# Altium footprint library FOOTPRINT_FC_NAVC_LIB.PcbLib: 13 footprints
Each footprint in its own frame and in the unit in brackets; x right, y up, seen from the top. Pads: shape width x height; smd on the part's side, far side on the other; paste and mask are expansions set on the pad; w line width, h text height; cw(c..) or ccw(c..) is an arc to the next point about the centre after c.
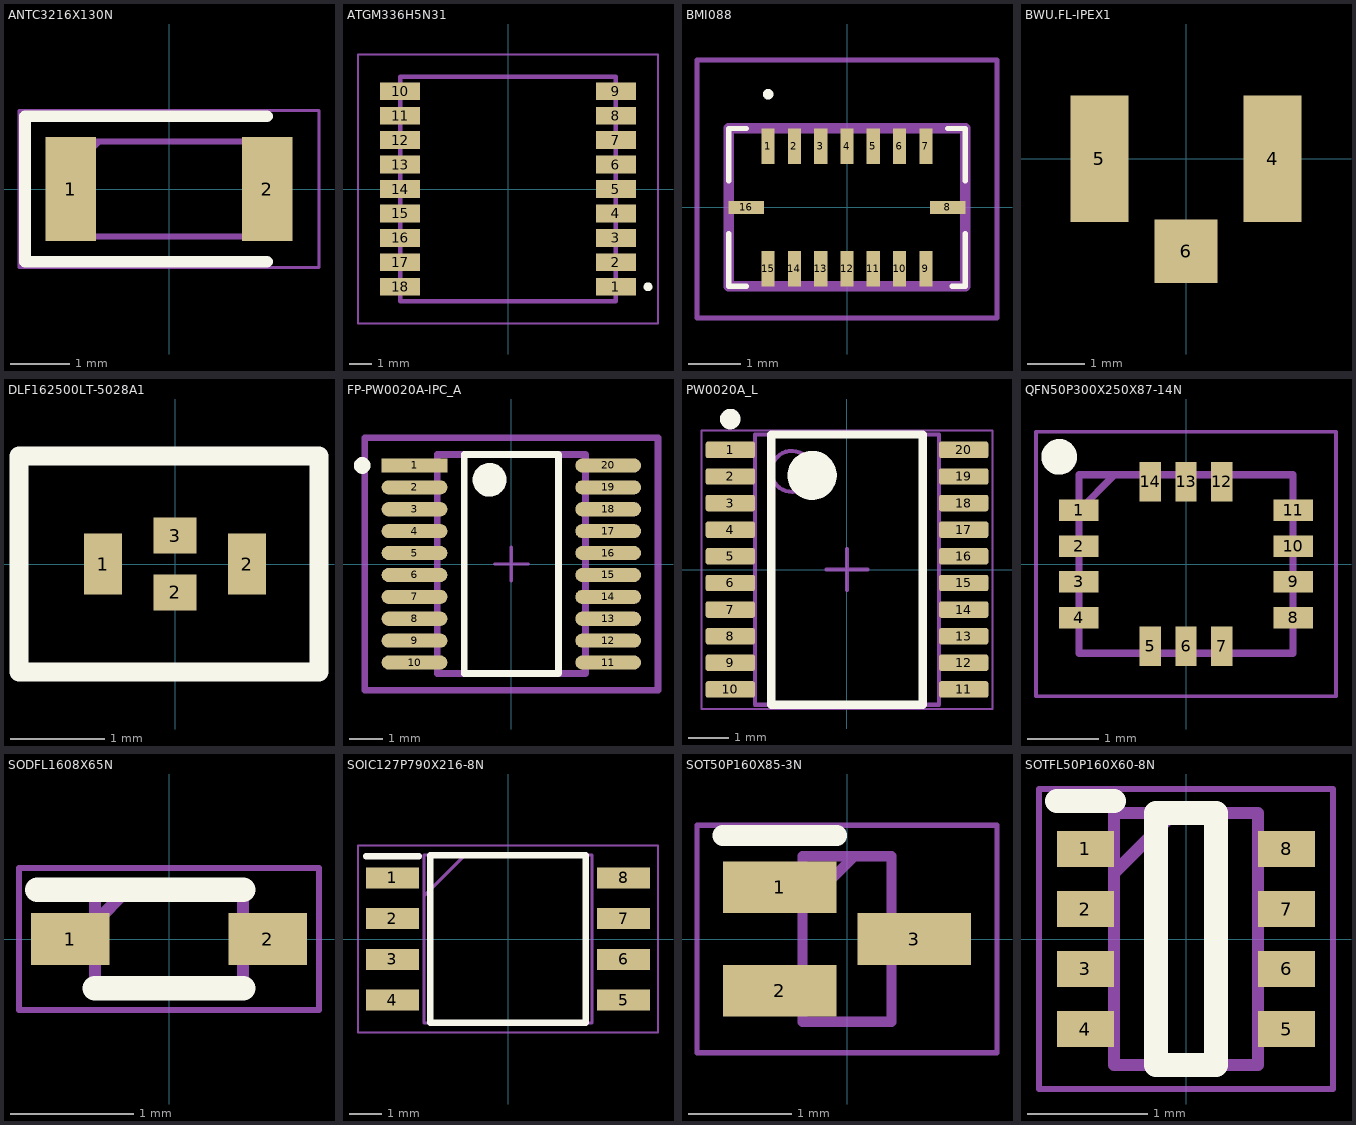
[diagram p0: the footprints below, top view; thin cyan lines are the x and y axes]

## ANTC3216X130N [mm]
pads (2):
  rect 0.85x1.75 smd: 1(-1.65,0) 2(1.65,0)
Top Overlay:
  lines w0.2: 1.65,-1.225 -2.425,-1.225 -2.425,1.225 1.65,1.225
Mechanical 15:
  lines w0.1: -1.6,0.375 -1.175,0.8 ; -1.6,-0.8 -1.6,0.8 1.6,0.8 1.6,-0.8 -1.6,-0.8
Mechanical 20:
  lines w0.05: -2.525,-1.325 -2.525,1.325 2.525,1.325 2.525,-1.325 -2.525,-1.325

## ATGM336H5N31 [mm]
pads (18):
  rect 1.8x0.8 smd: 1(4.85,-4.4) 2(4.85,-3.3) 3(4.85,-2.2) 4(4.85,-1.1) 5(4.85,0) 6(4.85,1.1) 7(4.85,2.2) 8(4.85,3.3) 9(4.85,4.4) 10(-4.85,4.4) 11(-4.85,3.3) 12(-4.85,2.2) 13(-4.85,1.1) 14(-4.85,0) 15(-4.85,-1.1) 16(-4.85,-2.2) 17(-4.85,-3.3) 18(-4.85,-4.4)
Top Overlay:
  lines w0.2: 6.2,-4.4 ccw(c6.3,-4.4) 6.4,-4.4 ccw(c6.3,-4.4) 6.2,-4.4
Mechanical 15:
  lines w0.2: -4.85,-5.05 4.85,-5.05 4.85,5.05 -4.85,5.05 -4.85,-5.05
Mechanical 20:
  lines w0.1: -6.75,-6.05 6.75,-6.05 6.75,6.05 -6.75,6.05 -6.75,-6.05

## BMI088 [mm]
pads (16):
  rect 0.25x0.675 smd: 1(-1.5,1.165) 2(-1,1.165) 3(-0.5,1.165) 4(0,1.165) 5(0.5,1.165) 6(1,1.165) 7(1.5,1.165) 9(1.5,-1.165) 10(1,-1.165) 11(0.5,-1.165) 12(0,-1.165) 13(-0.5,-1.165) 14(-1,-1.165) 15(-1.5,-1.165)
  rect 0.675x0.25 smd: 8(1.915,0) 16(-1.915,0)
Top Overlay:
  lines w0.1: -2.25,-0.5 -2.25,-1.5 -1.915,-1.5 ; -2.25,0.5 -2.25,1.5 -1.915,1.5 ; 1.915,1.5 2.25,1.5 2.25,0.5 ; 2,-1.5 2.25,-1.5 2.25,-0.5 ; -1.5,2.1 ccw(c-1.5,2.15) -1.5,2.2 ccw(c-1.5,2.15) -1.5,2.1
Mechanical 15:
  lines w0.2: -2.25,-1.5 -2.25,1.5 2.25,1.5 2.25,-1.5 -2.25,-1.5
Mechanical 20:
  lines w0.1: -2.852,-2.103 -2.852,2.8 2.852,2.8 2.852,-2.103 -2.852,-2.103

## BWU.FL-IPEX1 [mm]
pads (3):
  rect 1x2.2 smd: 4(1.5,0) 5(-1.5,0)
  rect 1.1x1.1 smd: 6(0,-1.6)
3D body "1909763-1.stp": height 1.24, standoff 0.01, extent -1.5,-1.55 1.5,1.55

## DLF162500LT-5028A1 [mm]
pads (4):
  rect 0.403x0.65 smd: 1(-0.762,0) 2(0.762,0)
  rect 0.45x0.381 smd mask+0.089: 2(0,-0.3) 3(0,0.3)
Top Overlay:
  lines w0.2: -1.651,-1.143 -1.651,1.143 1.524,1.143 1.524,-1.143 -1.651,-1.143
3D body "DLF162500LT-5028A1.stp": height 0.26, standoff 0, extent -0.826,-0.419 0.826,0.419

## FP-PW0020A-IPC_A [mm]
pads (20):
  rect 1.955x0.421 smd paste+0 mask+0: 1(-2.875,2.925)
  rrect100% 1.955x0.421 smd paste+0 mask+0: 2(-2.875,2.275) 3(-2.875,1.625) 4(-2.875,0.975) 5(-2.875,0.325) 6(-2.875,-0.325) 7(-2.875,-0.975) 8(-2.875,-1.625) 9(-2.875,-2.275) 10(-2.875,-2.925) 11(2.875,-2.925) 12(2.875,-2.275) 13(2.875,-1.625) 14(2.875,-0.975) 15(2.875,-0.325) 16(2.875,0.325) 17(2.875,0.975) 18(2.875,1.625) 19(2.875,2.275) 20(2.875,2.925)
Top Overlay:
  circle w0.25: c-4.428,2.925 r0.125
  circle w0.5: c-0.648,2.5 r0.25
  lines w0.2: -1.398,-3.25 -1.398,3.25 1.398,3.25 1.398,-3.25 -1.398,-3.25
Top 3D Body:
  lines w0.2: -2.2,-3.25 -2.2,3.25 2.2,3.25 2.2,-3.25 -2.2,-3.25
Top Courtyard:
  lines w0.2: -4.353,-3.75 -4.353,3.75 4.353,3.75 4.353,-3.75 -4.353,-3.75
Top Assembly:
  lines w0.2: -4.353,-3.75 -4.353,3.75 4.353,3.75 4.353,-3.75 -4.353,-3.75
  text ".Designator" at 0,0.188 h1
Top Component Center:
  lines w0.1: -0.5,0 0.5,0 ; 0,-0.5 0,0.5
3D body "IC_Texas_Instruments_CDCE906PW_eec.STEP": height 0.25, standoff 0, extent -4.353,-3.75 4.353,3.75

## PW0020A_L [mm] "SOP, 20-Leads, Body 6.6x4.5mm, Pitch 0.65mm, IPC High Density"
height 1.2
pads (20):
  rrect25% 1.2x0.4 smd: 1(-2.85,2.925) 2(-2.85,2.275) 3(-2.85,1.625) 4(-2.85,0.975) 5(-2.85,0.325) 6(-2.85,-0.325) 7(-2.85,-0.975) 8(-2.85,-1.625) 9(-2.85,-2.275) 10(-2.85,-2.925) 11(2.85,-2.925) 12(2.85,-2.275) 13(2.85,-1.625) 14(2.85,-0.975) 15(2.85,-0.325) 16(2.85,0.325) 17(2.85,0.975) 18(2.85,1.625) 19(2.85,2.275) 20(2.85,2.925)
Top Overlay:
  circle w0.25: c-2.85,3.675 r0.125
  circle w0.6: c-0.85,2.3 r0.3
  lines w0.2: -1.85,-3.3 -1.85,3.3 1.85,3.3 1.85,-3.3 -1.85,-3.3
Mechanical 1:
  text ".Designator" at -1.524,-0.508 h1.02
Mechanical 13:
  circle w0.1: c-1.35,2.4 r0.5
  lines w0.1: -2.25,-3.3 -2.25,3.3 2.25,3.3 2.25,-3.3 -2.25,-3.3
Mechanical 15:
  lines w0.05: -3.55,-3.4 -3.55,3.4 3.55,3.4 3.55,-3.4 -3.55,-3.4
  lines w0.1: -0.5,0 0.5,0 ; 0,-0.5 0,0.5
3D body "PW0020AakaMTC20.stp": height 1, standoff 0, extent -3.21,-3.25 3.21,3.25

## QFN50P300X250X87-14N [mm]
pads (14):
  rect 0.55x0.3 smd: 1(-1.5,0.75) 2(-1.5,0.25) 3(-1.5,-0.25) 4(-1.5,-0.75) 8(1.5,-0.75) 9(1.5,-0.25) 10(1.5,0.25) 11(1.5,0.75)
  rect 0.3x0.55 smd: 5(-0.5,-1.15) 6(0,-1.15) 7(0.5,-1.15) 12(0.5,1.15) 13(0,1.15) 14(-0.5,1.15)
Top Overlay:
  circle w0.25: c-1.775,1.5 r0.125
Mechanical 15:
  lines w0.1: -1.5,0.75 -1,1.25 ; -1.5,-1.25 -1.5,1.25 1.5,1.25 1.5,-1.25 -1.5,-1.25
Mechanical 20:
  lines w0.05: -2.1,-1.85 -2.1,1.85 2.1,1.85 2.1,-1.85 -2.1,-1.85
3D body "BMI270.stp": height 0.87, standoff 0, extent -1.55,-1.3 1.55,1.3

## QFP50P1600X1600X160-100N [mm]

## SODFL1608X65N [mm]
pads (2):
  rect 0.635x0.42 smd: 1(-0.8,0) 2(0.8,0)
Top Overlay:
  lines w0.2: -1.065,0.4 0.6,0.4 ; -0.6,-0.4 0.6,-0.4
Mechanical 15:
  lines w0.1: -0.6,0.135 -0.335,0.4 ; -0.6,-0.4 0.6,-0.4 0.6,0.4 -0.6,0.4 -0.6,-0.4
Mechanical 20:
  lines w0.05: -1.215,-0.575 1.215,-0.575 1.215,0.575 -1.215,0.575 -1.215,-0.575

## SOIC127P790X216-8N [mm]
pads (8):
  rect 1.65x0.65 smd: 1(-3.6,1.905) 2(-3.6,0.635) 3(-3.6,-0.635) 4(-3.6,-1.905) 5(3.6,-1.905) 6(3.6,-0.635) 7(3.6,0.635) 8(3.6,1.905)
Top Overlay:
  lines w0.2: -4.425,2.58 -2.775,2.58 ; -2.425,-2.615 -2.425,2.615 2.425,2.615 2.425,-2.615 -2.425,-2.615
Mechanical 15:
  lines w0.1: -2.615,1.345 -1.345,2.615 ; -2.615,-2.615 -2.615,2.615 2.615,2.615 2.615,-2.615 -2.615,-2.615
Mechanical 20:
  lines w0.05: -4.675,-2.915 -4.675,2.915 4.675,2.915 4.675,-2.915 -4.675,-2.915
3D body "W25Q128JVSIQ.stp": height 2.16, standoff 0, extent -3.95,-2.615 3.95,2.615

## SOT50P160X85-3N [mm]
pads (3):
  rect 1.1x0.5 smd: 1(-0.65,0.5) 2(-0.65,-0.5)
  rect 1.1x0.5 smd mask+0.076: 3(0.65,0)
Top Overlay:
  lines w0.2: -1.2,1 -0.1,1
Mechanical 15:
  lines w0.1: -0.43,0.3 0.07,0.8 ; -0.43,-0.8 -0.43,0.8 0.43,0.8 0.43,-0.8 -0.43,-0.8
Mechanical 20:
  lines w0.05: -1.45,-1.1 -1.45,1.1 1.45,1.1 1.45,-1.1 -1.45,-1.1
3D body "RE1C002UNTCL.stp": height 0.8, standoff -0.01, extent -0.85,-0.85 0.85,0.85

## SOTFL50P160X60-8N [mm]
pads (8):
  rect 0.475x0.3 smd: 1(-0.838,0.75) 2(-0.838,0.25) 3(-0.838,-0.25) 4(-0.838,-0.75) 5(0.838,-0.75) 6(0.838,-0.25) 7(0.838,0.25) 8(0.838,0.75)
Top Overlay:
  lines w0.2: -1.075,1.15 -0.6,1.15 ; -0.25,-1.05 -0.25,1.05 0.25,1.05 0.25,-1.05 -0.25,-1.05
Mechanical 15:
  lines w0.1: -0.6,0.55 -0.1,1.05 ; -0.6,-1.05 -0.6,1.05 0.6,1.05 0.6,-1.05 -0.6,-1.05
Mechanical 20:
  lines w0.05: -1.225,-1.25 -1.225,1.25 1.225,1.25 1.225,-1.25 -1.225,-1.25